# Altium footprint library 12V_5V_buck.PcbLib: 8 footprints
Each footprint in its own frame and in the unit in brackets; x right, y up, seen from the top. Pads: shape width x height; smd on the part's side, far side on the other; paste and mask are expansions set on the pad; w line width, h text height; cw(c..) or ccw(c..) is an arc to the next point about the centre after c.
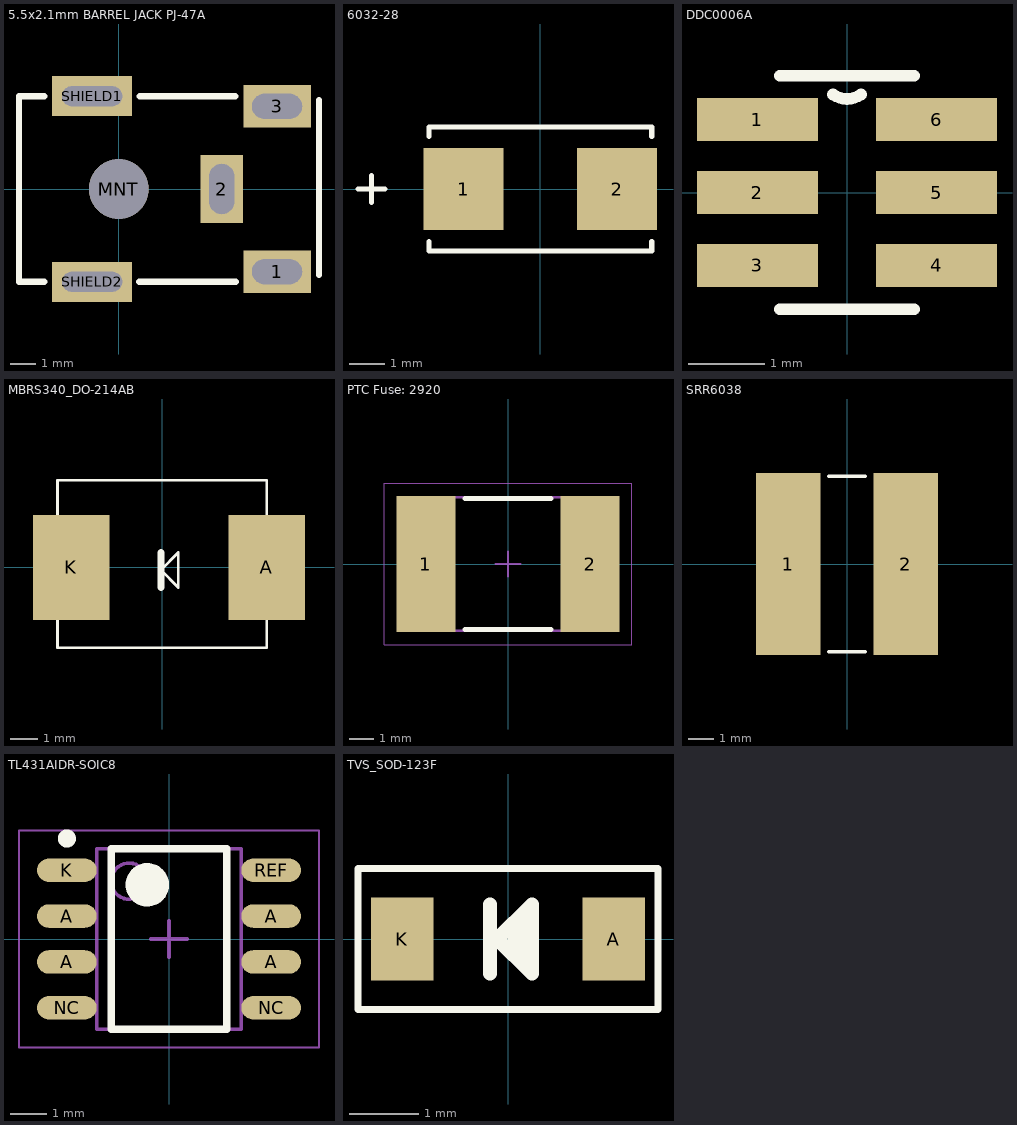
[diagram p0: the footprints below, top view; thin cyan lines are the x and y axes]

## 5.5x2.1mm BARREL JACK PJ-47A [mm]
pads (6):
  rect 2.7x1.7 hole 1 slot 2 at 0 deg: 1(6.325,-3.302) 3(6.325,3.302)
  rect 1.7x2.7 hole 1 slot 2 at 90 deg: 2(4.115,0)
  round 2.388 hole 2.388: MNT(0,0)
  rect 3.2x1.6 hole 0.8 slot 2.4 at 0 deg: SHIELD1(-1.067,3.708) SHIELD2(-1.067,-3.708)
Top Overlay:
  lines w0.254: -2.972,-3.708 -3.988,-3.708 -3.988,-3.302 -3.988,3.708 -2.972,3.708 ; 0.813,-3.708 4.674,-3.708 ; 0.838,3.708 4.648,3.708 ; 8.001,-3.429 8.001,3.556
3D body "pj-047a.stp": height 9.8, standoff -2.7, extent -3.937,-3.85 7.813,3.85

## 6032-28 [mil]
pads (2):
  rect 89x91 smd: 1(-85.5,0) 2(85.5,0)
Top Overlay:
  lines w6: -203,0 -173,0 ; -188,-15 -188,15 ; -124,-58.6 -124,-69 124,-69 124,-58.6 ; -124,58.6 -124,69 124,69 124,58.6

## DDC0006A [mil]
pads (6):
  rect 62x22 smd paste-4 mask+2: 1(-46,37.4) 2(-46,0) 3(-46,-37.4) 4(46,-37.4) 5(46,0) 6(46,37.4)
Top Overlay:
  lines w6: -34.5,-60 34.5,-60 ; -34.5,60 34.5,60 ; -7.14,50.35 ccw(c0,60) 7.14,50.35

## MBRS340_DO-214AB [mil]
pads (2):
  rect 110x150 smd: A(150,0) K(-130,0)
Top Overlay:
  lines w4: -150,-115 150,-115 150,125 -150,125 -150,-115 ; -1.7,-3.68 23.3,-28.68 23.3,-3.68 23.3,21.32 -1.7,-3.68
  lines w9.84: -1.7,-28.68 -1.7,-3.68 -1.7,21.32
3D body: height 87.61, standoff 86.61, extent -110.1,-72.36 -91.89,70.36
3D body: height 43.31, standoff 27.56, extent 93.61,-47.97 110.35,40.61
3D body: height 86.61, standoff 19.68, extent -151.03,-116 149.03,124

## PTC Fuse: 2920 [mm] "Chip Resistor, 2-Leads, Body 7.36x5.12mm, IPC Low Density"
height 1
pads (2):
  rect 2.4x5.55 smd: 1(-3.35,0) 2(3.35,0)
Top Overlay:
  lines w0.2: -1.75,-2.675 1.75,-2.675 ; -1.75,2.675 1.75,2.675
Mechanical 13:
  lines w0.1: -3.99,-2.72 3.99,-2.72 3.99,2.72 -3.99,2.72 -3.99,-2.72
Mechanical 15:
  lines w0.05: -5.05,-3.3 5.05,-3.3 5.05,3.3 -5.05,3.3 -5.05,-3.3
  lines w0.1: -0.5,0 0.5,0 ; 0,-0.5 0,0.5
3D body: height 1, standoff 0, extent 3.14,-2.72 3.99,2.72
3D body: height 1, standoff 0, extent -3.99,-2.72 -3.14,2.72
3D body: height 1, standoff 0, extent -3.14,-2.72 3.14,2.72

## SRR6038 [mil]
pads (2):
  rect 102x287 smd: 1(-92.5,0) 2(92.5,0)
Top Overlay:
  lines w6: -28.4,-138 28.4,-138 ; -28.4,138 28.4,138

## TL431AIDR-SOIC8 [mm] "SOIC, 8-Leads, Body 4.90x3.90mm, Pitch 1.27mm, IPC Low Density"
height 1.75
pads (8):
  oval 1.65x0.65 smd: A(-2.825,-0.635) A(-2.825,0.635) A(2.825,-0.635) A(2.825,0.635) K(-2.825,1.905) NC(-2.825,-1.905) NC(2.825,-1.905) REF(2.825,1.905)
Top Overlay:
  circle w0.6: c-0.6,1.5 r0.3
  circle w0.25: c-2.825,2.78 r0.125
  lines w0.2: -1.6,-2.5 1.6,-2.5 1.6,2.5 -1.6,2.5 -1.6,-2.5
Mechanical 13:
  circle w0.1: c-1.1,1.6 r0.5
  lines w0.1: -2,-2.5 2,-2.5 2,2.5 -2,2.5 -2,-2.5
Mechanical 15:
  lines w0.05: -4.15,-3 4.15,-3 4.15,3 -4.15,3 -4.15,-3
  lines w0.1: -0.5,0 0.5,0 ; 0,-0.5 0,0.5
3D body "SOIC127P600X175-8M.step": height 1.75, standoff 0, extent -3,-2.5 3,2.5

## TVS_SOD-123F [mm]
pads (2):
  rect 0.9x1.2 smd: A(1.524,0) K(-1.524,0)
Top Overlay:
  lines w0.102: -2.159,-1.016 2.159,-1.016 2.159,1.016 -2.159,1.016 -2.159,-1.016
  lines w0.2: -0.257,-0.5 -0.257,0.5 ; 0.093,-0.15 0.093,0.15 ; 0.243,-0.3 0.243,0.3 ; -0.157,0 0.343,0.5 0.343,-0.5 -0.157,0
3D body: height 0.79, standoff 0.74, extent -1.049,-0.75 -0.924,0.75
3D body: height 0.7, standoff 0, extent -1.511,-0.25 -1.386,0.25
3D body: height 0.7, standoff 0.5, extent -1.399,-0.25 -1.299,0.25
3D body: height 0.2, standoff 0, extent -1.699,-0.25 -1.499,0.25
3D body: height 0.76, standoff 0, extent -1.299,-0.875 1.376,0.875
3D body: height 0.2, standoff 0, extent 1.576,-0.225 1.776,0.275
3D body: height 0.7, standoff 0.5, extent 1.376,-0.225 1.476,0.275
3D body: height 0.7, standoff 0, extent 1.463,-0.225 1.588,0.275